# EAGLE library part MPU_6050 (library LightSaber)
MPU 6050
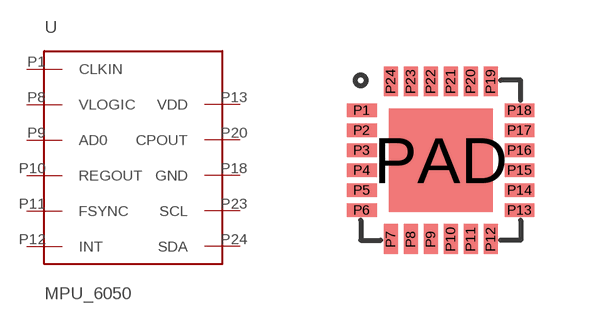
[diagram p5: symbol with the pads of MPU_6050; footprint MPU_6050]

Designator prefix U

## MPU_6050  [MPU_6050]
P1  CLKIN
P8  VLOGIC
P9  AD0
P10  REGOUT
P11  FSYNC
P12  INT
P13  VDD
P18  GND
P20  CPOUT
P23  SCL
P24  SDA

## Footprint MPU_6050 (pad centres in mm)
smd 0.75 x 0.35: P1 0.025,3.25; P2 0.025,2.75; P3 0.025,2.25; P4 0.025,1.75; P5 0.025,1.25; P6 0.025,0.75; P13 3.975,0.75; P14 3.975,1.25; P15 3.975,1.75; P16 3.975,2.25; P17 3.975,2.75; P18 3.975,3.25
smd 0.35 x 0.75: P7 0.75,0.025; P8 1.25,0.025; P9 1.75,0.025; P10 2.25,0.025; P11 2.75,0.025; P12 3.25,0.025; P19 3.25,3.975; P20 2.75,3.975; P21 2.25,3.975; P22 1.75,3.975; P23 1.25,3.975; P24 0.75,3.975
smd 2.6 x 2.6: PAD 2,2